# EAGLE library part LM2621 (library vreg-pulse (1))
Low Input Voltage, Step-Up DC-DC Converter (1.2-14v input)
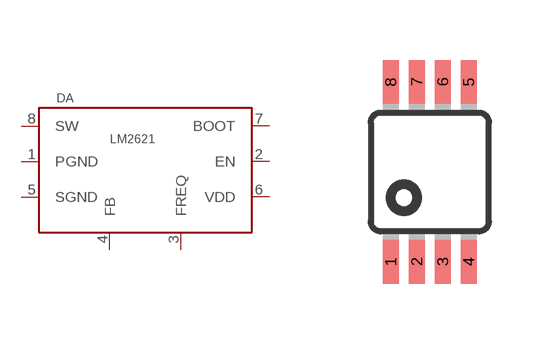
[diagram p2: symbol with the pads of MSOP8; footprint MSOP8]

Designator prefix DA

## LM2621-MSOP8  [MSOP8]
1  PGND  pwr
2  EN  in
3  FREQ  pas
4  FB  in
5  SGND  pwr
6  VDD  pas
7  BOOT  pas
8  SW  pas

## Footprint MSOP8 (pad centres in mm)
8M, 8-Lead, 0.118" Wide, Miniature Small Outline Package MSOP 8M-Package doc1097.pdf
smd 0.4 x 1.1: 1 -0.975,-2.25; 2 -0.325,-2.25; 3 0.325,-2.25; 4 0.975,-2.25; 5 0.975,2.25; 6 0.325,2.25; 7 -0.325,2.25; 8 -0.975,2.25